# EAGLE library part 236-116/000-023 (library con-wago_236)
Serie 236, Stand: 01.01.2012. Die jeweils aktuellen Daten zu diesem Artikel finden Sie in unserem Produktkatalog, den Sie unter www.wago.com einsehen können. As of: 01/01/2012. Please find the newest data for this article in our product catalogue, which can be viewed under www.wago.com.
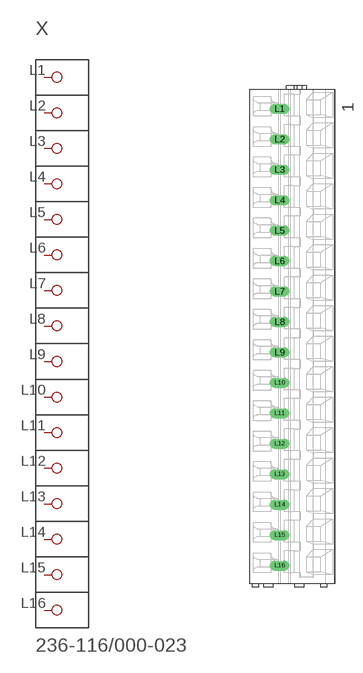
[diagram p287: symbol with the pads of P-236-116; footprint P-236-116]

Designator prefix X

## 236-116/000-023  [P-236-116]
L1  P1
L2  P2
L3  P3
L4  P4
L5  P5
L6  P6
L7  P7
L8  P8
L9  P9
L10  P10
L11  P11
L12  P12
L13  P13
L14  P14
L15  P15
L16  P16

## Footprint P-236-116 (pad centres in mm)
drill 1.1 long: L1 -2.043,37.35; L2 -2.043,32.35; L3 -2.043,27.35; L4 -2.043,22.35; L5 -2.043,17.35; L6 -2.043,12.35; L7 -2.043,7.35; L8 -2.043,2.35; L9 -2.043,-2.65; L10 -2.043,-7.65; L11 -2.043,-12.65; L12 -2.043,-17.65; L13 -2.043,-22.65; L14 -2.043,-27.65; L15 -2.043,-32.65; L16 -2.043,-37.65